# Altium schematic symbol library LM5008.SchLib: 1 symbol
Pins are listed as number, name and electrical type; pins without a type are passive.

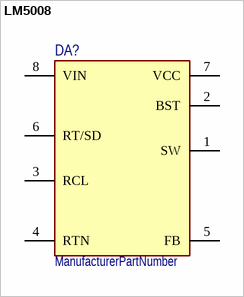
[diagram p0: symbol LM5008]

## LM5008
designator DA?  (value not drawn)
ManufacturerPartNumber: ManufacturerPartNumber
pins: 1 SW, 2 BST, 3 RCL, 4 RTN, 5 FB, 6 RT/SD, 7 VCC, 8 VIN